# EAGLE library part 68714014022 (library Eagle_FPC_CONNECTOR_AND_FFC_CAB (rev18c))
WR-FPC 0.5mm SMT ZIF Horizontal Top Contact, 40 Pins=>Code : Con_FPC_ZIF_0.50_68714014022 <http://katalog.we-online.de/media/images/eican/Con_FPC_ZIF_0.50_6871xx14022_pf2.jpg> Details see: http://katalog.we-online.de/en/em/687_1xx_140_22 Created 2014-07-09, Karrer Zheng 2014 (C) Würth Elektronik
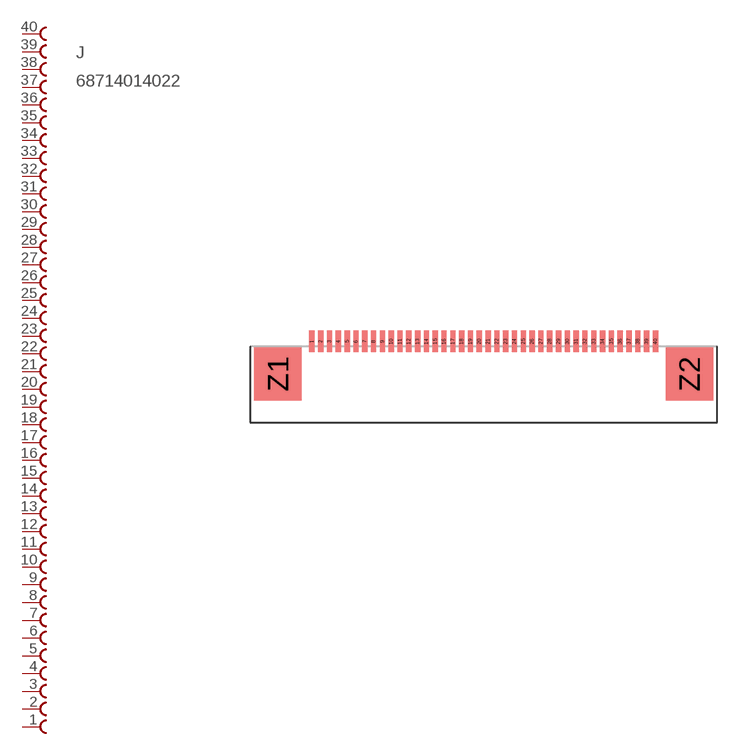
[diagram p1: symbol with the pads of 68714014022; footprint 68714014022]

Designator prefix J

## 68714014022  [68714014022]
1  40  pas
2  39  pas
3  38  pas
4  37  pas
5  36  pas
6  35  pas
7  34  pas
8  33  pas
9  32  pas
10  31  pas
11  30  pas
12  29  pas
13  28  pas
14  27  pas
15  26  pas
16  25  pas
17  24  pas
18  23  pas
19  22  pas
20  21  pas
21  20  pas
22  19  pas
23  18  pas
24  17  pas
25  16  pas
26  15  pas
27  14  pas
28  13  pas
29  12  pas
30  11  pas
31  10  pas
32  9  pas
33  8  pas
34  7  pas
35  6  pas
36  5  pas
37  4  pas
38  3  pas
39  2  pas
40  1  pas

## Footprint 68714014022 (pad centres in mm)
WR-FPC 0.5mm SMT ZIF Horizontal Top Contact, 40 Pins
smd 0.3 x 1.2: 1 -9.75,1.86; 2 -9.25,1.86; 3 -8.75,1.86; 4 -8.25,1.86; 5 -7.75,1.86; 6 -7.25,1.86; 7 -6.75,1.86; 8 -6.25,1.86; 9 -5.75,1.86; 10 -5.25,1.86; 11 -4.75,1.86; 12 -4.25,1.86; 13 -3.75,1.86; 14 -3.25,1.86; 15 -2.75,1.86; 16 -2.25,1.86; 17 -1.75,1.86; 18 -1.25,1.86; 19 -0.75,1.86; 20 -0.25,1.86; 21 0.25,1.86; 22 0.75,1.86; 23 1.25,1.86; 24 1.75,1.86; 25 2.25,1.86; 26 2.75,1.86; 27 3.25,1.86; 28 3.75,1.86; 29 4.25,1.86; 30 4.75,1.86; 31 5.25,1.86; 32 5.75,1.86; 33 6.25,1.86; 34 6.75,1.86; 35 7.25,1.86; 36 7.75,1.86; 37 8.25,1.86; 38 8.75,1.86; 39 9.25,1.86; 40 9.75,1.86
smd 2.7 x 3: Z1 -11.68,0; Z2 11.68,0